# Altium footprint library PA1005.PcbLib: 1 footprints
Each footprint in its own frame and in the unit in brackets; x right, y up, seen from the top. Pads: shape width x height; smd on the part's side, far side on the other; paste and mask are expansions set on the pad; w line width, h text height; cw(c..) or ccw(c..) is an arc to the next point about the centre after c.
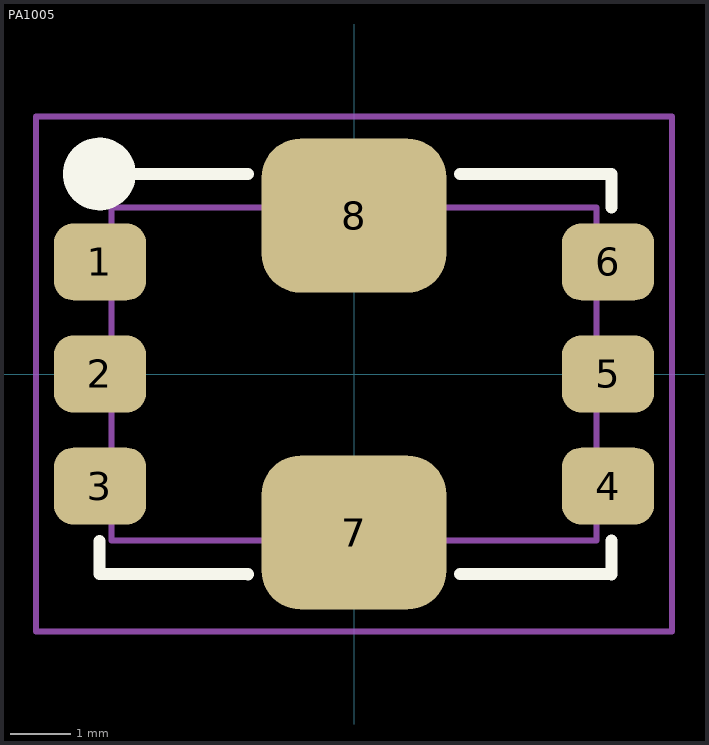
[diagram p0: the footprint, top view; thin cyan lines are the x and y axes]

## PA1005 [mil]
pads (8):
  rrect50% 60x50 smd mask+1.97: 1(-165,72.83) 2(-165,0) 3(-165,-72.83) 4(165,-72.83) 5(165,0) 6(165,72.83)
  rrect50% 120x100 smd mask+1.97: 7(0,-103) 8(0,102.83)
Top Overlay:
  circle w23.62: c-165.35,129.92 r11.81
  lines w7.87: -165.35,-108.43 -165.35,-129.92 -68.9,-130.09 ; -165.35,129.92 -68.9,129.92 ; 68.9,-129.92 167.16,-130.09 167.32,-129.92 167.32,-108.27 ; 68.9,129.92 167.32,129.92 167.32,108.27
Top Courtyard:
  lines w3.94: -206.69,-167.32 206.69,-167.32 206.69,167.32 -206.69,167.32 -206.69,-167.32
Top Assembly:
  lines w3.94: -157.48,-108.27 157.48,-108.27 157.48,108.27 -157.48,108.27 -157.48,-108.27
3D body "User Library-PA1005_XXXNL.step": height 199.96, standoff -0.04, extent -158.48,-109.99 156.48,110.01